# Altium footprint library Test Point.PcbLib: 36 footprints (part 3 of 3)
Each footprint in its own frame and in the unit in brackets; x right, y up, seen from the top. Pads: shape width x height; smd on the part's side, far side on the other; paste and mask are expansions set on the pad; w line width, h text height; cw(c..) or ccw(c..) is an arc to the next point about the centre after c.
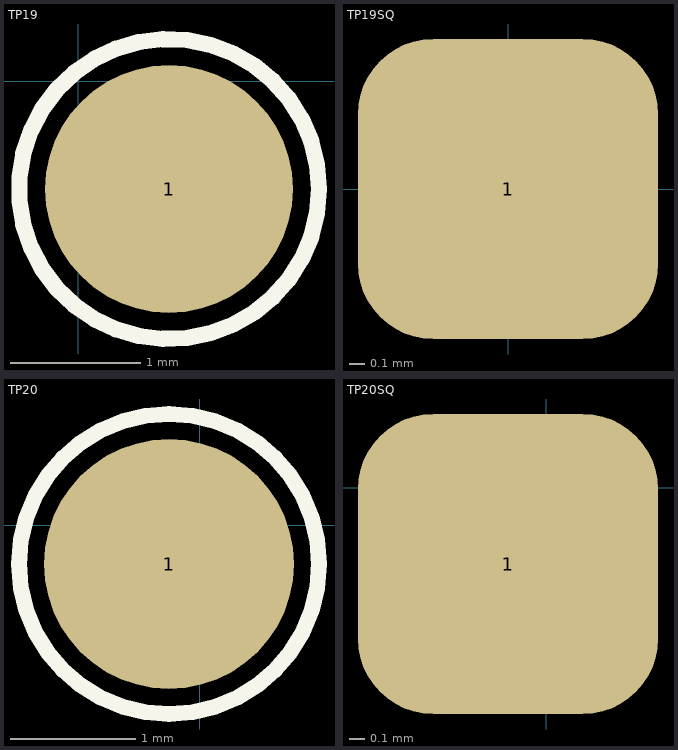
[diagram p2: the footprints below, top view; thin cyan lines are the x and y axes]

## TP19 [mm] "Round SMD Test Pin; 1.9 mm"
pads (1):
  round 1.9 smd: 1(0.695,-0.826)
Top Overlay:
  circle w0.125: c0.695,-0.826 r1.15

## TP19SQ [mm] "Square SMD Test Pin; 1.9 mm"
pads (1):
  rrect50% 1.9x1.9 smd: 1(0,0)

## TP20 [mm] "Round SMD Test Pin; 2.0 mm"
pads (1):
  round 2 smd: 1(-0.247,-0.309)
Top Overlay:
  circle w0.125: c-0.247,-0.309 r1.2

## TP20SQ [mm] "Square SMD Test Pin; 2.0 mm"
pads (1):
  rrect50% 2x2 smd: 1(-0.254,-0.508)